# Altium footprint library Jack_PCB_Lib1.PcbLib: 66 footprints (part 4 of 5)
Each footprint in its own frame and in the unit in brackets; x right, y up, seen from the top. Pads: shape width x height; smd on the part's side, far side on the other; paste and mask are expansions set on the pad; w line width, h text height; cw(c..) or ccw(c..) is an arc to the next point about the centre after c.
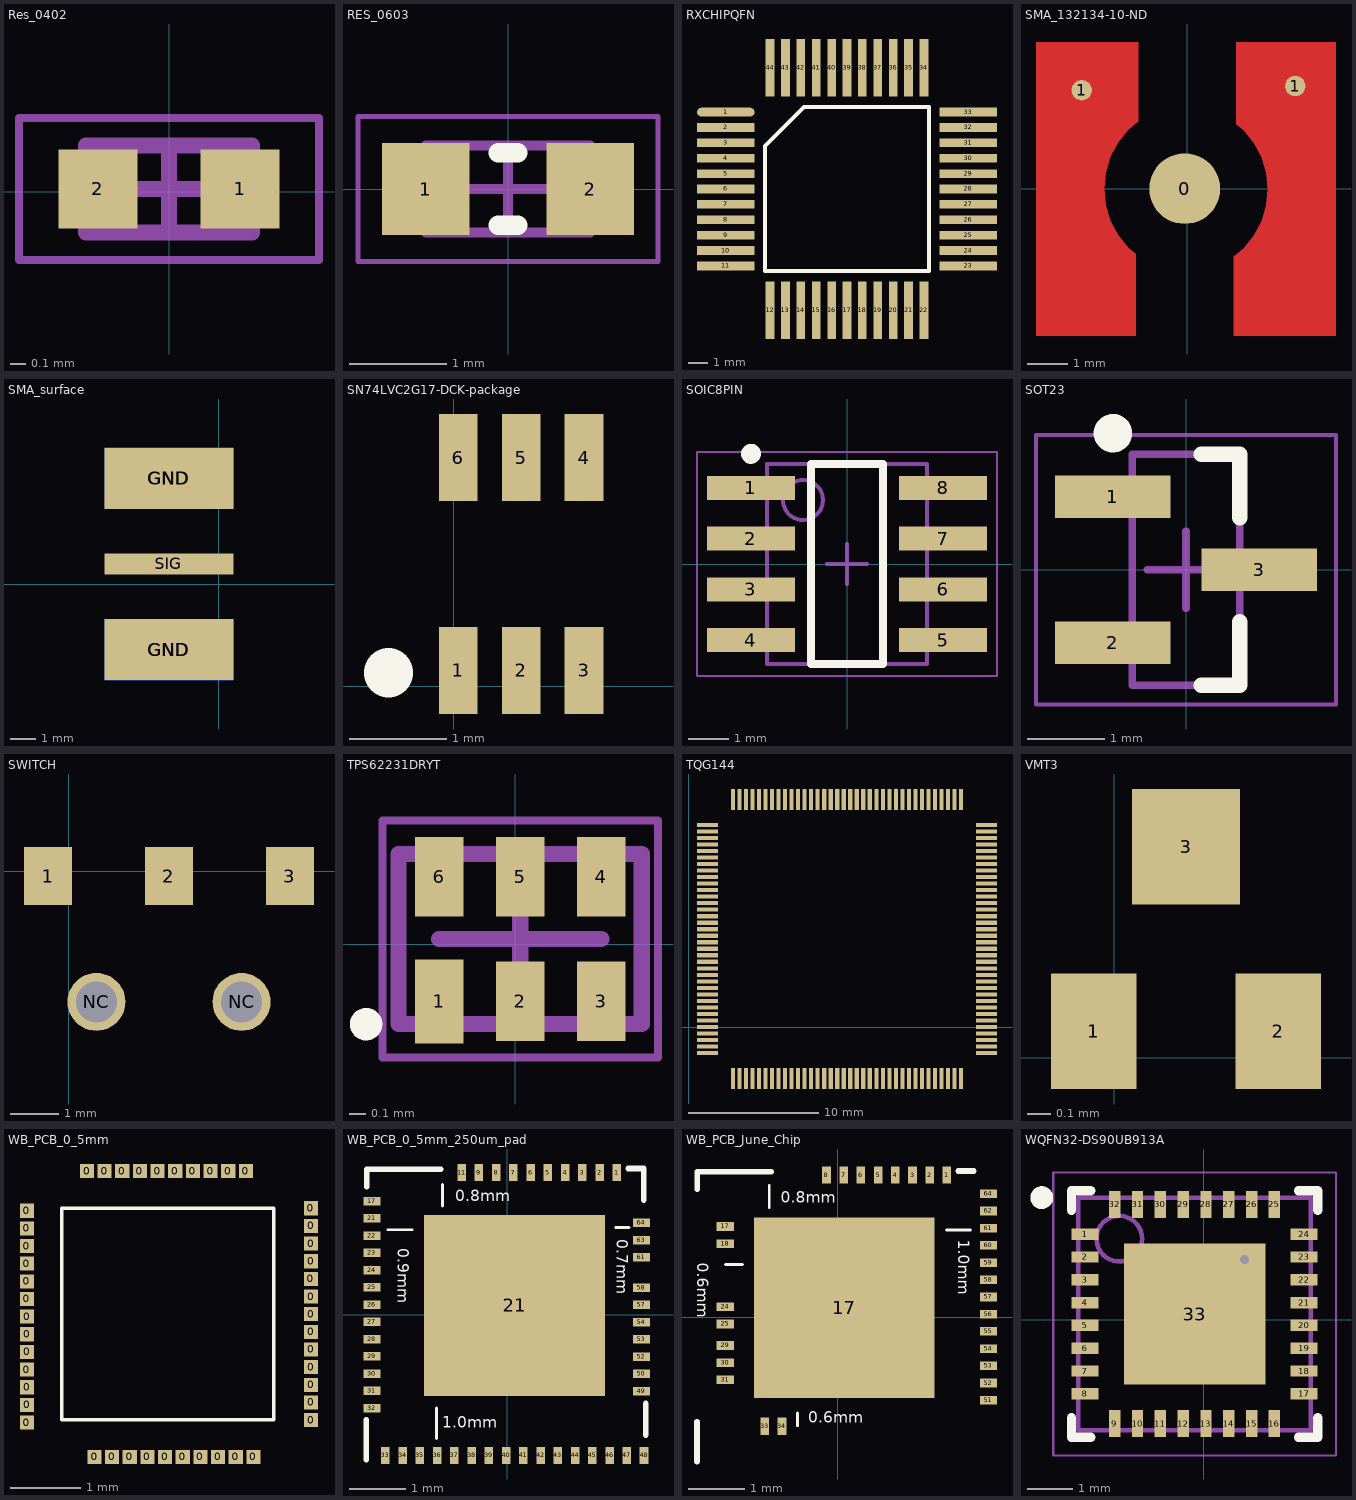
[diagram p3: the footprints below, top view; thin cyan lines are the x and y axes]

## Res_0402 [mm]
pads (2):
  rect 0.5x0.5 smd: 1(0.45,0.017) 2(-0.45,0.017)
Mechanical 13:
  lines w0.1: -0.525,-0.258 0.525,-0.258 0.525,0.292 -0.525,0.292 -0.525,-0.258
Mechanical 15:
  lines w0.05: -0.95,-0.433 0.95,-0.433 0.95,0.467 -0.95,0.467 -0.95,-0.433
  lines w0.1: -0.275,0.017 0.275,0.017 ; 0,-0.258 0,0.292
3D body: height 0.5, standoff 0, extent 0.275,-0.258 0.525,0.292
3D body: height 0.5, standoff 0, extent -0.525,-0.258 -0.275,0.292
3D body: height 0.5, standoff 0, extent -0.275,-0.258 0.275,0.292

## RES_0603 [mm]
height 0.55
pads (2):
  rect 0.9x0.95 smd: 1(-0.85,0) 2(0.85,0)
Top Overlay:
  lines w0.2: -0.1,-0.375 0.1,-0.375 ; -0.1,0.375 0.1,0.375
Mechanical 13:
  lines w0.1: -0.85,-0.45 -0.85,0.45 0.85,0.45 0.85,-0.45 -0.85,-0.45
Mechanical 15:
  lines w0.05: -1.55,-0.75 -1.55,0.75 1.55,0.75 1.55,-0.75 -1.55,-0.75
  lines w0.1: -0.45,0 0.45,0 ; 0,-0.45 0,0.45
3D body: height 0.55, standoff 0, extent -0.6,-0.45 0.6,0.45
3D body: height 0.55, standoff 0, extent -0.85,-0.45 -0.6,0.45
3D body: height 0.55, standoff 0, extent 0.6,-0.45 0.85,0.45

## RXCHIPQFN [mm]
pads (44):
  oval 3x0.45 smd: 1(5.161,-21.088)
  rect 3x0.45 smd: 2(5.161,-21.888) 3(5.161,-22.688) 4(5.161,-23.488) 5(5.161,-24.288) 6(5.161,-25.088) 7(5.161,-25.888) 8(5.161,-26.688) 9(5.161,-27.488) 10(5.161,-28.288) 11(5.161,-29.088) 23(17.761,-29.088) 24(17.761,-28.288) 25(17.761,-27.488) 26(17.761,-26.688) 27(17.761,-25.888) 28(17.761,-25.088) 29(17.761,-24.288) 30(17.761,-23.488) 31(17.761,-22.688) 32(17.761,-21.888) 33(17.761,-21.088)
  rect 0.45x3 smd: 12(7.461,-31.388) 13(8.261,-31.388) 14(9.061,-31.388) 15(9.861,-31.388) 16(10.661,-31.388) 17(11.461,-31.388) 18(12.261,-31.388) 19(13.061,-31.388) 20(13.861,-31.388) 21(14.661,-31.388) 22(15.461,-31.388) 34(15.461,-18.788) 35(14.661,-18.788) 36(13.861,-18.788) 37(13.061,-18.788) 38(12.261,-18.788) 39(11.461,-18.788) 40(10.661,-18.788) 41(9.861,-18.788) 42(9.061,-18.788) 43(8.261,-18.788) 44(7.461,-18.788)
Top Overlay:
  lines w0.2: 7.196,-29.353 15.726,-29.353 15.726,-20.823 9.231,-20.823 7.196,-22.858 7.196,-29.353

## SMA_132134-10-ND [mm]
pads (3):
  round 1.73 smd: 0(-0.065,0)
  round 0.5 smd: 1(-2.591,2.413) 1(2.642,2.515)
Top Layer:
  region: -3.708,-3.607 -1.27,-3.607 -1.27,-1.6 -1.266,-1.595 -1.443,-1.45 -1.698,-1.14 -1.887,-0.786 -2.003,-0.403 -2.042,-0.003 -2.003,0.396 -1.887,0.779 -1.698,1.133 -1.443,1.443 -1.21,1.634 -1.209,1.632 -1.209,3.592 -3.698,3.592 -3.708,3.581
  region: 3.64,3.592 1.201,3.592 1.201,1.585 1.197,1.58 1.374,1.435 1.629,1.125 1.818,0.771 1.934,0.387 1.974,-0.012 1.934,-0.411 1.818,-0.795 1.629,-1.148 1.374,-1.458 1.142,-1.649 1.14,-1.647 1.14,-3.607 3.629,-3.607 3.64,-3.597

## SMA_surface [mil]
pads (5):
  rect 200x95 smd: GND(-77.08,-101.94) GND(-77.08,164.3)
  rect 200x95 smd far side: GND(-77.06,164.32) GND(-77.06,-102.03)
  rect 200x32 smd: SIG(-77.08,31.18)

## SN74LVC2G17-DCK-package [mm]
pads (6):
  rect 0.4x0.9 smd mask+0.05: 1(0.047,0.163) 2(0.697,0.163) 3(1.347,0.163) 4(1.347,2.363) 5(0.697,2.363) 6(0.047,2.363)
Top Overlay:
  lines w0.508: -0.675,0.136 -0.675,0.143

## SOIC8PIN [mm] "SOIC, 8-Leads, Body 4.90x3.90mm, Pitch 1.27mm, IPC Medium Density"
height 1.76
pads (8):
  rect 2.2x0.6 smd: 1(-2.4,1.905) 2(-2.4,0.635) 3(-2.4,-0.635) 4(-2.4,-1.905) 5(2.4,-1.905) 6(2.4,-0.635) 7(2.4,0.635) 8(2.4,1.905)
Top Overlay:
  circle w0.25: c-2.4,2.755 r0.125
  lines w0.2: -0.9,-2.5 0.9,-2.5 0.9,2.5 -0.9,2.5 -0.9,-2.5
Mechanical 13:
  circle w0.1: c-1.1,1.6 r0.5
  lines w0.1: -2,-2.5 2,-2.5 2,2.5 -2,2.5 -2,-2.5
Mechanical 15:
  lines w0.05: -3.75,-2.8 3.75,-2.8 3.75,2.8 -3.75,2.8 -3.75,-2.8
  lines w0.1: -0.5,0 0.5,0 ; 0,-0.5 0,0.5
3D body: height 1.76, standoff 0.2, extent -2,-2.5 2,2.5

## SOT23 [mm] "SOT23, 3-Leads, Body 2.90x2.45mm, Pitch 0.95mm, IPC Medium Density"
height 1.1
pads (3):
  rect 1.5x0.55 smd: 1(-0.95,0.95) 2(-0.95,-0.95) 3(0.95,0)
Top Overlay:
  circle w0.25: c-0.95,1.775 r0.125
  lines w0.2: 0.2,-1.5 0.7,-1.5 0.7,-0.675 ; 0.2,1.5 0.7,1.5 0.7,0.675
Mechanical 13:
  lines w0.1: -0.7,-1.5 -0.7,1.5 0.7,1.5 0.7,-1.5 -0.7,-1.5
Mechanical 15:
  lines w0.05: -1.95,-1.75 -1.95,1.75 1.95,1.75 1.95,-1.75 -1.95,-1.75
  lines w0.1: -0.5,0 0.5,0 ; 0,-0.5 0,0.5
3D body: height 1.1, standoff 0.05, extent -0.7,-1.5 0.7,1.5

## SWITCH [mm]
pads (5):
  rect 1x1.2 smd: 1(-0.431,-0.104) 2(2.068,-0.104) 3(4.568,-0.104)
  round 1.2 hole 0.85: NC(0.569,-2.705) NC(3.568,-2.706)

## TPS62231DRYT [mm]
pads (6):
  rect 0.3x0.52 smd paste+0 mask+0.05: 1(-0.469,-0.353)
  rect 0.3x0.49 smd paste+0 mask+0.05: 2(0.031,-0.353) 3(0.531,-0.353) 4(0.531,0.417) 5(0.031,0.417) 6(-0.469,0.417)
Top Overlay:
  circle w0.1: c-0.919,-0.493 r0.05
Mechanical 13:
  lines w0.1: -0.719,-0.493 -0.719,0.557 0.781,0.557 0.781,-0.493 -0.719,-0.493
Mechanical 15:
  lines w0.05: -0.819,-0.698 -0.819,0.762 0.881,0.762 0.881,-0.698 -0.819,-0.698
  lines w0.1: -0.469,0.032 0.531,0.032 ; 0.031,-0.468 0.031,0.532
3D body: height 0.6, standoff 0, extent -0.719,-0.493 0.781,0.557

## TQG144 [mm]
pads (144):
  rect 1.6x0.32 smd mask+0.06: P1(1.418,15.524) P2(1.418,15.024) P3(1.418,14.524) P4(1.418,14.024) P5(1.418,13.524) P6(1.418,13.024) P7(1.418,12.524) P8(1.418,12.024) P9(1.418,11.524) P10(1.418,11.024) P11(1.418,10.524) P12(1.418,10.024) P13(1.418,9.524) P14(1.418,9.024) P15(1.418,8.524) P16(1.418,8.024) P17(1.418,7.524) P18(1.418,7.024) P19(1.418,6.524) P20(1.418,6.024) P21(1.418,5.524) P22(1.418,5.024) P23(1.418,4.524) P24(1.418,4.024) P25(1.418,3.524) P26(1.418,3.024) P27(1.418,2.524) P28(1.418,2.024) P29(1.418,1.524) P30(1.418,1.024) P31(1.418,0.524) P32(1.418,0.024) P33(1.418,-0.476) P34(1.418,-0.976) P35(1.418,-1.476) P36(1.418,-1.976) P73(22.818,-1.976) P74(22.818,-1.476) P75(22.818,-0.976) P76(22.818,-0.476) P77(22.818,0.024) P78(22.818,0.524) P79(22.818,1.024) P80(22.818,1.524) P81(22.818,2.024) P82(22.818,2.524) P83(22.818,3.024) P84(22.818,3.524) P85(22.818,4.024) P86(22.818,4.524) P87(22.818,5.024) P88(22.818,5.524) P89(22.818,6.024) P90(22.818,6.524) P91(22.818,7.024) P92(22.818,7.524) P93(22.818,8.024) P94(22.818,8.524) P95(22.818,9.024) P96(22.818,9.524) P97(22.818,10.024) P98(22.818,10.524) P99(22.818,11.024) P100(22.818,11.524) P101(22.818,12.024) P102(22.818,12.524) P103(22.818,13.024) P104(22.818,13.524) P105(22.818,14.024) P106(22.818,14.524) P107(22.818,15.024) P108(22.818,15.524)
  rect 0.32x1.6 smd mask+0.06: P37(3.368,-3.925) P38(3.868,-3.925) P39(4.368,-3.925) P40(4.868,-3.925) P41(5.368,-3.925) P42(5.868,-3.925) P43(6.368,-3.925) P44(6.868,-3.925) P45(7.368,-3.925) P46(7.868,-3.925) P47(8.368,-3.925) P48(8.868,-3.925) P49(9.368,-3.925) P50(9.868,-3.925) P51(10.368,-3.925) P52(10.868,-3.925) P53(11.368,-3.925) P54(11.868,-3.925) P55(12.368,-3.925) P56(12.868,-3.925) P57(13.368,-3.925) P58(13.868,-3.925) P59(14.368,-3.925) P60(14.868,-3.925) P61(15.368,-3.925) P62(15.868,-3.925) P63(16.368,-3.925) P64(16.868,-3.925) P65(17.368,-3.925) P66(17.868,-3.925) P67(18.368,-3.925) P68(18.868,-3.925) P69(19.368,-3.925) P70(19.868,-3.925) P71(20.368,-3.925) P72(20.868,-3.925) P109(20.868,17.475) P110(20.368,17.475) P111(19.868,17.475) P112(19.368,17.475) P113(18.868,17.475) P114(18.368,17.475) P115(17.868,17.475) P116(17.368,17.475) P117(16.868,17.475) P118(16.368,17.475) P119(15.868,17.475) P120(15.368,17.475) P121(14.868,17.475) P122(14.368,17.475) P123(13.868,17.475) P124(13.368,17.475) P125(12.868,17.475) P126(12.368,17.475) P127(11.868,17.475) P128(11.368,17.475) P129(10.868,17.475) P130(10.368,17.475) P131(9.868,17.475) P132(9.368,17.475) P133(8.868,17.475) P134(8.368,17.475) P135(7.868,17.475) P136(7.368,17.475) P137(6.868,17.475) P138(6.368,17.475) P139(5.868,17.475) P140(5.368,17.475) P141(4.868,17.475) P142(4.368,17.475) P143(3.868,17.475) P144(3.368,17.475)

## VMT3 [mm]
pads (3):
  rect 0.37x0.5 smd: 1(-0.089,0.116) 2(0.711,0.116)
  rect 0.47x0.5 smd: 3(0.311,0.916)

## WB_PCB_0_5mm [mm]
pads (46):
  rect 0.2x0.2 smd mask+0: 0(1.544,6.187) 0(1.544,5.186) 0(1.545,5.437) 0(1.545,5.687) 0(1.545,4.937) 0(1.545,3.185) 0(1.545,5.937) 0(1.545,3.936) 0(1.545,3.435) 0(1.545,3.686) 0(1.545,4.186) 0(1.545,4.436) 0(1.545,4.687) 0(2.395,6.749) 0(2.501,2.699) 0(2.645,6.748) 0(2.751,2.699) 0(2.895,6.748) 0(3.001,2.699) 0(3.145,6.749) 0(3.252,2.699) 0(3.395,6.748) 0(3.501,2.699) 0(3.645,6.748) 0(3.751,2.699) 0(3.895,6.749) 0(4.002,2.699) 0(4.146,6.749) 0(4.252,2.699) 0(4.395,6.748) 0(4.502,2.699) 0(4.645,6.748) 0(4.752,2.699) 0(5.568,6.222) 0(5.568,5.221) 0(5.569,5.471) 0(5.569,5.721) 0(5.569,4.971) 0(5.569,3.219) 0(5.569,5.972) 0(5.569,3.97) 0(5.569,3.47) 0(5.569,3.72) 0(5.569,4.221) 0(5.569,4.471) 0(5.569,4.721)
Top Overlay:
  lines w0.05: 2.038,3.225 5.043,3.225 5.043,6.225 2.038,6.225 2.038,3.225

## WB_PCB_0_5mm_250um_pad [mil]
pads (50):
  rect 6x12 smd mask+0: 1(76.14,99.06) 2(64.14,99.06) 3(52.14,99.06) 4(40.14,99.06) 5(28.14,99.06) 6(16.14,99.06) 7(4.14,99.06) 8(-7.86,99.06) 9(-19.86,99.06) 11(-31.86,99.06) 33(-84.93,-97.7) 34(-72.93,-97.7) 35(-60.93,-97.7) 36(-48.93,-97.7) 37(-36.93,-97.7) 38(-24.93,-97.7) 39(-12.93,-97.7) 40(-0.93,-97.7) 41(11.07,-97.7) 42(23.07,-97.7) 43(35.07,-97.7) 44(47.07,-97.7) 45(59.07,-97.7) 46(71.07,-97.7) 47(83.07,-97.7) 48(95.07,-97.7)
  rect 12x6 smd mask+0: 17(-94.28,79.23) 21(-94.28,67.23) 22(-94.28,55.23) 23(-94.28,43.23) 24(-94.28,31.23) 25(-94.28,19.23) 26(-94.28,7.23) 27(-94.28,-4.77) 28(-94.28,-16.77) 29(-94.28,-28.77) 30(-94.28,-40.77) 31(-94.28,-52.77) 32(-94.28,-64.77) 49(93.25,-52.95) 50(93.25,-40.95) 52(93.25,-28.95) 53(93.25,-16.95) 54(93.25,-4.95) 57(93.25,7.05) 58(93.25,19.05) 61(93.25,40.05) 63(93.25,52.05) 64(93.25,64.05)
  rect 125.98x125.98 smd mask+4: 21(4.97,6.65)
Top Overlay:
  lines w1.97: -83.32,59.33 -66.32,59.33 ; -49.46,-85.97 -49.46,-64.82 ; -45.09,75.87 -45.09,79.62 -45.09,87.1 -45.09,90.84 ; 75.34,60.88 84.65,60.88 ; -54.35,-52.66 63.94,-52.66 63.94,65.44 -54.35,65.44 -54.35,-52.66
  lines w3.94: -98.18,-100.69 -98.18,-72.92 ; -97.93,89.28 -97.93,101.48 -46.47,101.48 ; 84.07,101.89 94.9,101.89 94.9,79.98 ; 96.23,-83.55 96.23,-61.64
  text "1.0mm" at -45.3,-78.57 h7.87
  text "0.7mm" at 76.16,52.78 h7.87
  text "3mm" at 51.02,7.28 h7.87
  text "0.9mm" at -76.25,46.51 h7.87
  text "0.8mm" at -36.25,79.14 h7.87
  text "3mm" at -11.22,51.77 h7.87

## WB_PCB_June_Chip [mil]
pads (31):
  rect 6x12 smd mask+0: 1(76.14,99.06) 2(64.14,99.06) 3(52.14,99.06) 4(40.14,99.06) 5(28.14,99.06) 6(16.14,99.06) 7(4.14,99.06) 8(-7.86,99.06) 33(-50.93,-76.04) 34(-38.93,-76.04)
  rect 12x6 smd mask+0: 17(-78.53,63.23) 18(-78.53,51.23) 24(-78.53,7.23) 25(-78.53,-4.77) 29(-78.53,-19.77) 30(-78.53,-31.77) 31(-78.53,-43.77) 51(105.07,-57.95) 52(105.07,-45.95) 53(105.07,-33.95) 54(105.07,-21.95) 55(105.07,-9.95) 56(105.07,2.05) 57(105.07,14.05) 58(105.07,26.05) 59(105.07,38.05) 60(105.07,50.05) 61(105.07,62.05) 62(105.07,74.05) 64(105.07,86.05)
  rect 125.98x125.98 smd: 17(4.53,6.45)
Top Overlay:
  lines w1.97: -78.37,36.81 -66.47,36.81 ; -47.76,76.25 -47.76,91.76 ; -28.1,-75.72 -28.1,-66.78 ; 75.9,60.88 92.52,60.88 ; -54.35,-52.66 -54.35,65.44 63.94,65.44 63.94,-52.66 -54.35,-52.66
  lines w3.94: -98.18,-100.69 -98.18,-72.92 ; -97.93,89.28 -97.93,101.48 -46.47,101.48 ; 84.07,101.89 94.9,101.89
  text "3mm" at -11.22,51.77 h7.87
  text "0.8mm" at -39.84,79.84 h7.87
  text "0.6mm" at -98.13,37.87 h7.87
  text "3mm" at 51.02,7.28 h7.87
  text "1.0mm" at 84.08,54 h7.87
  text "0.6mm" at -20.68,-73.71 h7.87

## WQFN32-DS90UB913A [mm]
pads (33):
  rect 0.6x0.25 smd mask+0: 1(-2.605,1.873) 2(-2.605,1.373) 3(-2.605,0.873) 4(-2.605,0.373) 5(-2.605,-0.127) 6(-2.605,-0.627) 7(-2.605,-1.127) 8(-2.605,-1.627) 17(2.195,-1.627) 18(2.195,-1.127) 19(2.195,-0.627) 20(2.195,-0.127) 21(2.195,0.373) 22(2.195,0.873) 23(2.195,1.373) 24(2.195,1.873)
  rect 0.25x0.6 smd mask+0: 9(-1.955,-2.277) 10(-1.455,-2.277) 11(-0.955,-2.277) 12(-0.455,-2.277) 13(0.045,-2.277) 14(0.545,-2.277) 15(1.045,-2.277) 16(1.545,-2.277) 25(1.545,2.523) 26(1.045,2.523) 27(0.545,2.523) 28(0.045,2.523) 29(-0.455,2.523) 30(-0.955,2.523) 31(-1.455,2.523) 32(-1.955,2.523)
  rect 3.1x3.1 smd paste-4: 33(-0.205,0.123)
via 0.889,1.321 diameter 0.5 hole 0.2
Top Overlay:
  circle w0.25: c-3.555,2.673 r0.125
  lines w0.2: -2.905,-2.152 -2.905,-2.577 -2.48,-2.577 ; -2.905,2.398 -2.905,2.823 -2.48,2.823 ; 2.07,-2.577 2.495,-2.577 2.495,-2.152 ; 2.07,2.823 2.495,2.823 2.495,2.398
Top Paste:
  rectangle: -1.705,0.223 -0.305,1.623
  rectangle: -0.105,-1.377 1.295,0.023
  rectangle: -1.705,-1.377 -0.305,0.123
  rectangle: -0.105,0.223 1.295,1.623
Mechanical 13:
  circle w0.1: c-1.855,1.773 r0.5
  lines w0.1: -2.755,-2.427 2.345,-2.427 2.345,2.673 -2.755,2.673 -2.755,-2.427
Mechanical 15:
  lines w0.05: -3.305,-2.977 2.895,-2.977 2.895,3.223 -3.305,3.223 -3.305,-2.977
  lines w0.1: -0.705,0.123 0.295,0.123 ; -0.205,-0.377 -0.205,0.623
3D body: height 0.8, standoff 0.01, extent -2.755,-2.427 2.345,2.673